# Altium integrated library 171857-0003.IntLib: 1 symbol
Pins are listed as number, name and electrical type; pins without a type are passive.

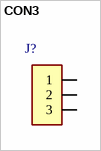
[diagram p0: symbol CON3]

## CON3
designator J?, comment 1718570003  (value not drawn)
ID: 1718570003; PDF: http://www.molex.com/pdm_docs/sd/1718570002_sd.pdf; PRICE: 0.42000; BUY_LINK: http://www.digikey.com/product-search/en?KeyWords=171857-0003&WT.z_header=search_go
footprint 171857-0003
footprint 171857-0003
pins: 1, 2, 3